# EAGLE library part AM (library アナログマルチプレクサ)
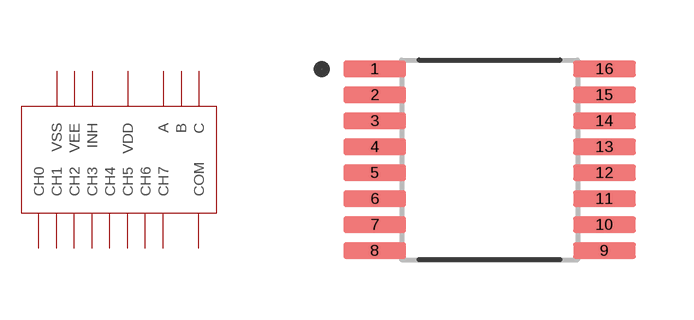
[diagram p0: symbol with the pads of SOP65P640X120-16N; footprint SOP65P640X120-16N]

Designator prefix -

## AM  [SOP65P640X120-16N]
1  CH4
2  CH6
3  COM
4  CH7
5  CH5
6  INH
7  VEE
8  VSS
9  C
10  B
11  A
12  CH3
13  CH0
14  CH1
15  CH2
16  VDD

## Footprint SOP65P640X120-16N (pad centres in mm)
smd 1.57 x 0.41: 1 -2.87,2.275; 2 -2.87,1.625; 3 -2.87,0.975; 4 -2.87,0.325; 5 -2.87,-0.325; 6 -2.87,-0.975; 7 -2.87,-1.625; 8 -2.87,-2.275; 9 2.87,-2.275; 10 2.87,-1.625; 11 2.87,-0.975; 12 2.87,-0.325; 13 2.87,0.325; 14 2.87,0.975; 15 2.87,1.625; 16 2.87,2.275